# Altium schematic symbol library Maxim Amplifiers and Comparators.SchLib: 420 symbols (part 5 of 16)
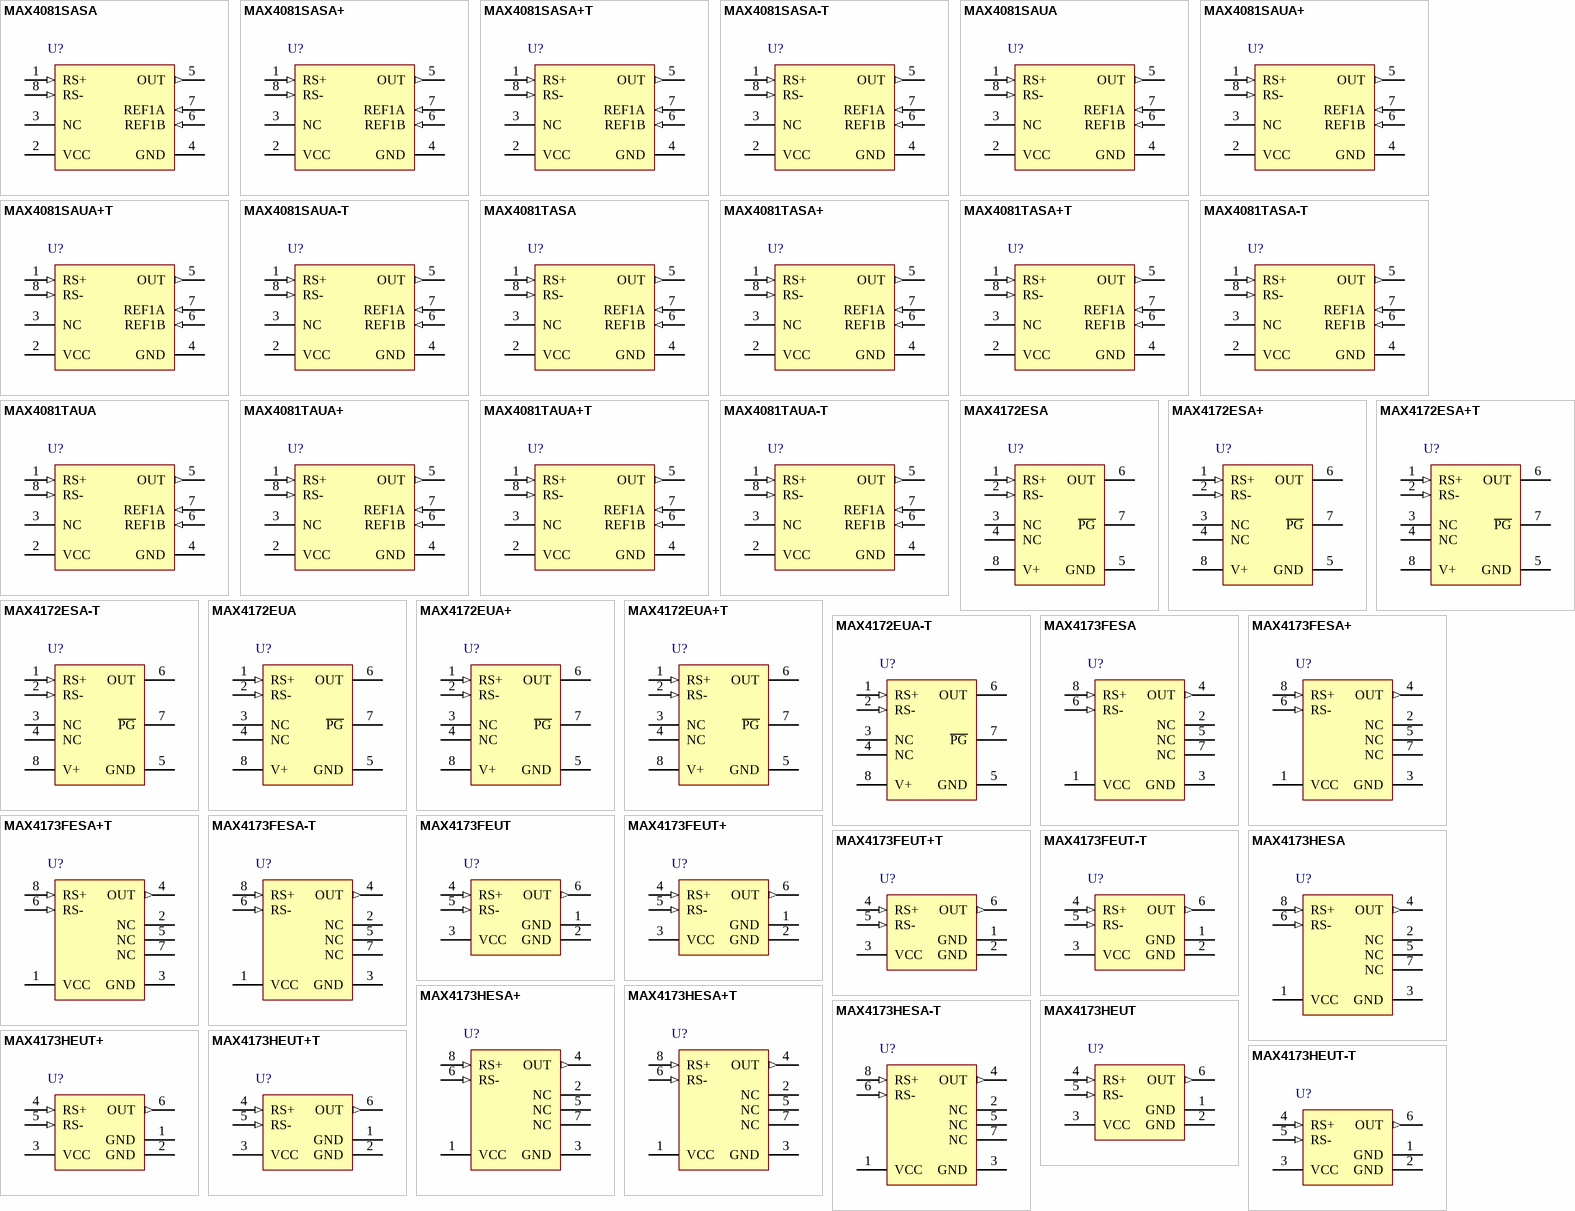
[diagram p14: symbols MAX4081SASA to MAX4173HEUT-T]

## MAX4172EUA
designator U?
Precision, High-Side, Current-Sense Amplifier (Iout) 10 uA / mV Gain, -40 to 85 degC, 8-Pin SOP (U8-1); PartNumber: MAX4172EUA; Bi-Dir. Curr. Sense: No; DatasheetVersion: Rev. 2; PackageVersion: Rev. L, 08/2009; PackageReference: U8-1; PackageDescription: 8-Pin Micro-MAX, Thin Shrink Small-Outline (U8-1), Body 3 x 3 mm, Pitch 0.65mm; Supplier 1: Digi-Key; Supplier Part Number 1: MAX4172EUA-ND; Supplier 2: Mouser; Supplier Part Number 2: 700-MAX4172EUA-NR; Gain: 10 uA/mV; Mounting Technology: Surface Mount; Code_JEDEC: MO-187; ComponentLink1Description: Manufacturer URL; ComponentLink1URL: http://www.maximintegrated.com/; ComponentLink2Description: Datasheet; ComponentLink2URL: http://datasheets.maximintegrated.com/en/ds/MAX4172.pdf; ComponentLink3Description: Package Specification; ComponentLink3URL: http://pdfserv.maximintegrated.com/package_dwgs/21-0036.PDF
footprint MAXM-U8-1_N (SOP, 8-Leads, Body 3x3mm, Pitch 0.65mm, IPC Medium Density)
footprint MAXM-U8-1_L (SOP, 8-Leads, Body 3x3mm, Pitch 0.65mm, IPC High Density)
footprint MAXM-U8-1_M (SOP, 8-Leads, Body 3x3mm, Pitch 0.65mm, IPC Low Density)
pins: 1 RS+ (in) "Power connection to the external sense resistor. The “+” indicates the direction of current flow.", 2 RS- (in) "Load-side connection for the external sense resistor. The “-” indicates the direction of current flow.", 3 NC "No Connect. No internal connection. Leave open or connect to GND", 4 NC "No Connect. No internal connection. Leave open or connect to GND", 5 GND (power) "Ground", 6 OUT (hiz) "Current Output. OUT is proportional to the magnitude of the sense voltage (VRS+ - VRS-). A 1k ohm resistor from OUT to ground will result in a voltage equal to 10V/V of sense voltage.", 7 ~{PG} (oc) "Power Good Open-Collector Logic Output. A low level indicates that V+ is sufficient to power the MAX4172, and adequate time has passed for power-on transients to settle out.", 8 V+ (power) "Supply Voltage Input for the MAX4172"

## MAX4172EUA+
designator U?
Precision, High-Side, Current-Sense Amplifier (Iout) 10 uA / mV Gain, -40 to 85 degC, 8-Pin SOP (U8+1), Pb-Free; PartNumber: MAX4172EUA+; Bi-Dir. Curr. Sense: No; DatasheetVersion: Rev. 2; PackageVersion: Rev. L, 08/2009; PackageReference: U8+1; PackageDescription: 8-Pin Micro-MAX, Thin Shrink Small-Outline (U8+1), Body 3 x 3 mm, Pitch 0.65 mm; Supplier 1: Digi-Key; Supplier Part Number 1: MAX4172EUA+-ND; Supplier 2: Mouser; Supplier Part Number 2: 700-MAX4172EUA; Gain: 10 uA/mV; Mounting Technology: Surface Mount; Code_JEDEC: MO-187; ComponentLink1Description: Manufacturer URL; ComponentLink1URL: http://www.maximintegrated.com/; ComponentLink2Description: Datasheet; ComponentLink2URL: http://datasheets.maximintegrated.com/en/ds/MAX4172.pdf; ComponentLink3Description: Package Specification; ComponentLink3URL: http://pdfserv.maximintegrated.com/package_dwgs/21-0036.PDF
footprint MAXM-U8+1_N (SOP, 8-Leads, Body 3x3mm, Pitch 0.65mm, IPC Medium Density)
footprint MAXM-U8+1_L (SOP, 8-Leads, Body 3x3mm, Pitch 0.65mm, IPC High Density)
footprint MAXM-U8+1_M (SOP, 8-Leads, Body 3x3mm, Pitch 0.65mm, IPC Low Density)
pins: 1 RS+ (in) "Power connection to the external sense resistor. The “+” indicates the direction of current flow.", 2 RS- (in) "Load-side connection for the external sense resistor. The “-” indicates the direction of current flow.", 3 NC "No Connect. No internal connection. Leave open or connect to GND", 4 NC "No Connect. No internal connection. Leave open or connect to GND", 5 GND (power) "Ground", 6 OUT (hiz) "Current Output. OUT is proportional to the magnitude of the sense voltage (VRS+ - VRS-). A 1k ohm resistor from OUT to ground will result in a voltage equal to 10V/V of sense voltage.", 7 ~{PG} (oc) "Power Good Open-Collector Logic Output. A low level indicates that V+ is sufficient to power the MAX4172, and adequate time has passed for power-on transients to settle out.", 8 V+ (power) "Supply Voltage Input for the MAX4172"

## MAX4172EUA+T
designator U?
Precision, High-Side, Current-Sense Amplifier (Iout) 10 uA / mV Gain, -40 to 85 degC, 8-Pin SOP (U8+1), Pb-Free, Tape and Reel; PartNumber: MAX4172EUA+T; Bi-Dir. Curr. Sense: No; DatasheetVersion: Rev. 2; PackageVersion: Rev. L, 08/2009; PackageReference: U8+1; PackageDescription: 8-Pin Micro-MAX, Thin Shrink Small-Outline (U8+1), Body 3 x 3 mm, Pitch 0.65 mm; Supplier 1: Digi-Key; Supplier Part Number 1: MAX4172EUA+T-ND; Supplier 2: Mouser; Supplier Part Number 2: 700-MAX4172EUA+T; Gain: 10 uA/mV; Mounting Technology: Surface Mount; Code_JEDEC: MO-187; ComponentLink1Description: Manufacturer URL; ComponentLink1URL: http://www.maximintegrated.com/; ComponentLink2Description: Datasheet; ComponentLink2URL: http://datasheets.maximintegrated.com/en/ds/MAX4172.pdf; ComponentLink3Description: Package Specification; ComponentLink3URL: http://pdfserv.maximintegrated.com/package_dwgs/21-0036.PDF
footprint MAXM-U8+1_N (SOP, 8-Leads, Body 3x3mm, Pitch 0.65mm, IPC Medium Density)
footprint MAXM-U8+1_L (SOP, 8-Leads, Body 3x3mm, Pitch 0.65mm, IPC High Density)
footprint MAXM-U8+1_M (SOP, 8-Leads, Body 3x3mm, Pitch 0.65mm, IPC Low Density)
pins: 1 RS+ (in) "Power connection to the external sense resistor. The “+” indicates the direction of current flow.", 2 RS- (in) "Load-side connection for the external sense resistor. The “-” indicates the direction of current flow.", 3 NC "No Connect. No internal connection. Leave open or connect to GND", 4 NC "No Connect. No internal connection. Leave open or connect to GND", 5 GND (power) "Ground", 6 OUT (hiz) "Current Output. OUT is proportional to the magnitude of the sense voltage (VRS+ - VRS-). A 1k ohm resistor from OUT to ground will result in a voltage equal to 10V/V of sense voltage.", 7 ~{PG} (oc) "Power Good Open-Collector Logic Output. A low level indicates that V+ is sufficient to power the MAX4172, and adequate time has passed for power-on transients to settle out.", 8 V+ (power) "Supply Voltage Input for the MAX4172"

## MAX4172EUA-T
designator U?
Precision, High-Side, Current-Sense Amplifier (Iout) 10 uA / mV Gain, -40 to 85 degC, 8-Pin SOP (U8-1), Tape and Reel; PartNumber: MAX4172EUA-T; Bi-Dir. Curr. Sense: No; DatasheetVersion: Rev. 2; PackageVersion: Rev. L, 08/2009; PackageReference: U8-1; PackageDescription: 8-Pin Micro-MAX, Thin Shrink Small-Outline (U8-1), Body 3 x 3 mm, Pitch 0.65mm; Supplier 1: Digi-Key; Supplier Part Number 1: MAX4172EUA-T-ND; Supplier 2: Mouser; Supplier Part Number 2: 700-MAX4172EUA-T-; Gain: 10 uA/mV; Mounting Technology: Surface Mount; Code_JEDEC: MO-187; ComponentLink1Description: Manufacturer URL; ComponentLink1URL: http://www.maximintegrated.com/; ComponentLink2Description: Datasheet; ComponentLink2URL: http://datasheets.maximintegrated.com/en/ds/MAX4172.pdf; ComponentLink3Description: Package Specification; ComponentLink3URL: http://pdfserv.maximintegrated.com/package_dwgs/21-0036.PDF
footprint MAXM-U8-1_N (SOP, 8-Leads, Body 3x3mm, Pitch 0.65mm, IPC Medium Density)
footprint MAXM-U8-1_L (SOP, 8-Leads, Body 3x3mm, Pitch 0.65mm, IPC High Density)
footprint MAXM-U8-1_M (SOP, 8-Leads, Body 3x3mm, Pitch 0.65mm, IPC Low Density)
pins: 1 RS+ (in) "Power connection to the external sense resistor. The “+” indicates the direction of current flow.", 2 RS- (in) "Load-side connection for the external sense resistor. The “-” indicates the direction of current flow.", 3 NC "No Connect. No internal connection. Leave open or connect to GND", 4 NC "No Connect. No internal connection. Leave open or connect to GND", 5 GND (power) "Ground", 6 OUT (hiz) "Current Output. OUT is proportional to the magnitude of the sense voltage (VRS+ - VRS-). A 1k ohm resistor from OUT to ground will result in a voltage equal to 10V/V of sense voltage.", 7 ~{PG} (oc) "Power Good Open-Collector Logic Output. A low level indicates that V+ is sufficient to power the MAX4172, and adequate time has passed for power-on transients to settle out.", 8 V+ (power) "Supply Voltage Input for the MAX4172"

## MAX4173FESA
designator U?
Voltage-Output, High-Side Current-Sense Amplifier, 50 V / V Gain, -40 to 85 degC, 8-Pin SOIC (S8-2); PartNumber: MAX4173FESA; Bi-Dir. Curr. Sense: No; Gain: 20 V/V, 50 V/V ,100 V/V; DatasheetVersion: Rev. 5; PackageVersion: Rev. D, 10/2012; PackageReference: S8-2; PackageDescription: 8-Pin Small-Outline IC, Narrow (0.15in) (S8-2), Body 4.90 x 3.90 mm, Pitch 1.27 mm; Supplier 1: Digi-Key; Supplier Part Number 1: MAX4173FESA-ND; Supplier 2: Mouser; Supplier Part Number 2: 700-MAX4173FESA-NR; Mounting Technology: Surface Mount; Code_JEDEC: MS012; ComponentLink1Description: Manufacturer URL; ComponentLink1URL: http://www.maximintegrated.com/; ComponentLink2Description: Datasheet; ComponentLink2URL: http://datasheets.maximintegrated.com/en/ds/MAX4173-MAX4173T.pdf; ComponentLink3Description: Package Specification; ComponentLink3URL: http://pdfserv.maximintegrated.com/package_dwgs/21-0041.PDF
footprint MAXM-S8-2_N (SOIC, 8-Leads, Body 4.90x3.90mm, Pitch 1.27mm, IPC Medium Density)
footprint MAXM-S8-2_L (SOIC, 8-Leads, Body 4.90x3.90mm, Pitch 1.27mm, IPC High Density)
footprint MAXM-S8-2_M (SOIC, 8-Leads, Body 4.90x3.90mm, Pitch 1.27mm, IPC Low Density)
pins: 1 VCC (power) "Supply Voltage. Use at least a 0.1uF capacitor to decouple VCC from fast transients", 2 NC "No Connection. Not internally connected.", 3 GND (power) "Ground", 4 OUT (out) "Output Voltage. VOUT is proportional to the magnitude of VSENSE (VRS+ - VRS-).", 5 NC "No Connection. Not internally connected.", 6 RS- (in) "Load connection to the external sense resistor.", 7 NC "No Connection. Not internally connected.", 8 RS+ (in) "Power connection to the external-sense resistor."

## MAX4173FESA+
designator U?
Voltage-Output, High-Side Current-Sense Amplifier, 50 V / V Gain, -40 to 85 degC, 8-Pin SOIC (S8+2), Pb-Free; PartNumber: MAX4173FESA+; Bi-Dir. Curr. Sense: No; Gain: 20 V/V, 50 V/V ,100 V/V; DatasheetVersion: Rev. 5; PackageVersion: Rev. D, 10/2012; PackageReference: S8+2; PackageDescription: 8-Pin Small-Outline IC, Narrow (0.15in) (S8+2), Body 4.90 x 3.90 mm, Pitch 1.27 mm; Supplier 1: Digi-Key; Supplier Part Number 1: MAX4173FESA+-ND; Supplier 2: Newark; Supplier Part Number 2: 53K6811; Supplier 3: Mouser; Supplier Part Number 3: 700-MAX4173FESA; Mounting Technology: Surface Mount; Code_JEDEC: MS012; ComponentLink1Description: Manufacturer URL; ComponentLink1URL: http://www.maximintegrated.com/; ComponentLink2Description: Datasheet; ComponentLink2URL: http://datasheets.maximintegrated.com/en/ds/MAX4173-MAX4173T.pdf; ComponentLink3Description: Package Specification; ComponentLink3URL: http://pdfserv.maximintegrated.com/package_dwgs/21-0041.PDF
footprint MAXM-S8+2_N (SOIC, 8-Leads, Body 4.90x3.90mm, Pitch 1.27mm, IPC Medium Density)
footprint MAXM-S8+2_L (SOIC, 8-Leads, Body 4.90x3.90mm, Pitch 1.27mm, IPC High Density)
footprint MAXM-S8+2_M (SOIC, 8-Leads, Body 4.90x3.90mm, Pitch 1.27mm, IPC Low Density)
pins: 1 VCC (power) "Supply Voltage. Use at least a 0.1uF capacitor to decouple VCC from fast transients", 2 NC "No Connection. Not internally connected.", 3 GND (power) "Ground", 4 OUT (out) "Output Voltage. VOUT is proportional to the magnitude of VSENSE (VRS+ - VRS-).", 5 NC "No Connection. Not internally connected.", 6 RS- (in) "Load connection to the external sense resistor.", 7 NC "No Connection. Not internally connected.", 8 RS+ (in) "Power connection to the external-sense resistor."

## MAX4173FESA+T
designator U?
Voltage-Output, High-Side Current-Sense Amplifier, 50 V / V Gain, -40 to 85 degC, 8-Pin SOIC (S8+2), Pb-Free, Tape and Reel; PartNumber: MAX4173FESA+T; Bi-Dir. Curr. Sense: No; Gain: 20 V/V, 50 V/V ,100 V/V; DatasheetVersion: Rev. 5; PackageVersion: Rev. D, 10/2012; PackageReference: S8+2; PackageDescription: 8-Pin Small-Outline IC, Narrow (0.15in) (S8+2), Body 4.90 x 3.90 mm, Pitch 1.27 mm; Supplier 1: Digi-Key; Supplier Part Number 1: MAX4173FESA+T-ND; Supplier 2: Mouser; Supplier Part Number 2: 700-MAX4173FESA+T; Mounting Technology: Surface Mount; Code_JEDEC: MS012; ComponentLink1Description: Manufacturer URL; ComponentLink1URL: http://www.maximintegrated.com/; ComponentLink2Description: Datasheet; ComponentLink2URL: http://datasheets.maximintegrated.com/en/ds/MAX4173-MAX4173T.pdf; ComponentLink3Description: Package Specification; ComponentLink3URL: http://pdfserv.maximintegrated.com/package_dwgs/21-0041.PDF
footprint MAXM-S8+2_N (SOIC, 8-Leads, Body 4.90x3.90mm, Pitch 1.27mm, IPC Medium Density)
footprint MAXM-S8+2_L (SOIC, 8-Leads, Body 4.90x3.90mm, Pitch 1.27mm, IPC High Density)
footprint MAXM-S8+2_M (SOIC, 8-Leads, Body 4.90x3.90mm, Pitch 1.27mm, IPC Low Density)
pins: 1 VCC (power) "Supply Voltage. Use at least a 0.1uF capacitor to decouple VCC from fast transients", 2 NC "No Connection. Not internally connected.", 3 GND (power) "Ground", 4 OUT (out) "Output Voltage. VOUT is proportional to the magnitude of VSENSE (VRS+ - VRS-).", 5 NC "No Connection. Not internally connected.", 6 RS- (in) "Load connection to the external sense resistor.", 7 NC "No Connection. Not internally connected.", 8 RS+ (in) "Power connection to the external-sense resistor."

## MAX4173FESA-T
designator U?
Voltage-Output, High-Side Current-Sense Amplifier, 50 V / V Gain, -40 to 85 degC, 8-Pin SOIC (S8-2), Tape and Reel; PartNumber: MAX4173FESA-T; Bi-Dir. Curr. Sense: No; Gain: 20 V/V, 50 V/V ,100 V/V; DatasheetVersion: Rev. 5; PackageVersion: Rev. D, 10/2012; PackageReference: S8-2; PackageDescription: 8-Pin Small-Outline IC, Narrow (0.15in) (S8-2), Body 4.90 x 3.90 mm, Pitch 1.27 mm; Supplier 1: Digi-Key; Supplier Part Number 1: MAX4173FESA-T-ND; Supplier 2: Mouser; Supplier Part Number 2: 700-MAX4173FESA-T-; Mounting Technology: Surface Mount; Code_JEDEC: MS012; ComponentLink1Description: Manufacturer URL; ComponentLink1URL: http://www.maximintegrated.com/; ComponentLink2Description: Datasheet; ComponentLink2URL: http://datasheets.maximintegrated.com/en/ds/MAX4173-MAX4173T.pdf; ComponentLink3Description: Package Specification; ComponentLink3URL: http://pdfserv.maximintegrated.com/package_dwgs/21-0041.PDF
footprint MAXM-S8-2_N (SOIC, 8-Leads, Body 4.90x3.90mm, Pitch 1.27mm, IPC Medium Density)
footprint MAXM-S8-2_L (SOIC, 8-Leads, Body 4.90x3.90mm, Pitch 1.27mm, IPC High Density)
footprint MAXM-S8-2_M (SOIC, 8-Leads, Body 4.90x3.90mm, Pitch 1.27mm, IPC Low Density)
pins: 1 VCC (power) "Supply Voltage. Use at least a 0.1uF capacitor to decouple VCC from fast transients", 2 NC "No Connection. Not internally connected.", 3 GND (power) "Ground", 4 OUT (out) "Output Voltage. VOUT is proportional to the magnitude of VSENSE (VRS+ - VRS-).", 5 NC "No Connection. Not internally connected.", 6 RS- (in) "Load connection to the external sense resistor.", 7 NC "No Connection. Not internally connected.", 8 RS+ (in) "Power connection to the external-sense resistor."

## MAX4173FEUT
designator U?
Voltage-Output, High-Side Current-Sense Amplifier, 50 V / V Gain, -40 to 85 degC, 6-Pin SOT23 (U6-1); PartNumber: MAX4173FEUT; Bi-Dir. Curr. Sense: No; Gain: 20 V/V, 50 V/V ,100 V/V; DatasheetVersion: Rev. 5; PackageVersion: Rev. N, 08/2012; PackageReference: U6-1; PackageDescription: 6-Pin Small-Outline Transistor Package (U6-1), Body 2.9 x 1.625 mm, Pitch 0.95 mm; Supplier 1: Mouser; Supplier Part Number 1: N/A; Mounting Technology: Surface Mount; Code_JEDEC: MO178; ComponentLink1Description: Manufacturer URL; ComponentLink1URL: http://www.maximintegrated.com/; ComponentLink2Description: Datasheet; ComponentLink2URL: http://datasheets.maximintegrated.com/en/ds/MAX4173-MAX4173T.pdf; ComponentLink3Description: Package Specification; ComponentLink3URL: http://pdfserv.maximintegrated.com/package_dwgs/21-0058.PDF
footprint MAXM-U6-1_N (SOT23, 6-Leads, Body 2.9x1.625mm, Pitch 0.95mm, IPC Medium Density)
footprint MAXM-U6-1_L (SOT23, 6-Leads, Body 2.9x1.625mm, Pitch 0.95mm, IPC High Density)
footprint MAXM-U6-1_M (SOT23, 6-Leads, Body 2.9x1.625mm, Pitch 0.95mm, IPC Low Density)
pins: 1 GND (power) "Ground", 2 GND (power) "Ground", 3 VCC (power) "Supply Voltage Input. Bypass to GND with a 0.1uF capacitor", 4 RS+ (in) "Power-Side Connection to the External Sense Resistor", 5 RS- (in) "Load-Side Connection to the External Sense Resistor", 6 OUT (out) "Voltage Output. VOUT is proportional to VSENSE. Output impedance is approximately 12k ohm."

## MAX4173FEUT+
designator U?
Voltage-Output, High-Side Current-Sense Amplifier, 50 V / V Gain, -40 to 85 degC, 6-Pin SOT23 (U6+1), Pb-Free; PartNumber: MAX4173FEUT+; Bi-Dir. Curr. Sense: No; Gain: 20 V/V, 50 V/V ,100 V/V; DatasheetVersion: Rev. 5; PackageVersion: Rev. N, 08/2012; PackageReference: U6+1; PackageDescription: 6-Pin Small-Outline Transistor Package (U6+1), Body 2.9 x 1.625 mm, Pitch 0.95 mm; Supplier 1: Mouser; Supplier Part Number 1: N/A; Mounting Technology: Surface Mount; Code_JEDEC: MO178; ComponentLink1Description: Manufacturer URL; ComponentLink1URL: http://www.maximintegrated.com/; ComponentLink2Description: Datasheet; ComponentLink2URL: http://datasheets.maximintegrated.com/en/ds/MAX4173-MAX4173T.pdf; ComponentLink3Description: Package Specification; ComponentLink3URL: http://pdfserv.maximintegrated.com/package_dwgs/21-0058.PDF
footprint MAXM-U6+1_N (SOT23, 6-Leads, Body 2.9x1.625mm, Pitch 0.95mm, IPC Medium Density)
footprint MAXM-U6+1_L (SOT23, 6-Leads, Body 2.9x1.625mm, Pitch 0.95mm, IPC High Density)
footprint MAXM-U6+1_M (SOT23, 6-Leads, Body 2.9x1.625mm, Pitch 0.95mm, IPC Low Density)
pins: 1 GND (power) "Ground", 2 GND (power) "Ground", 3 VCC (power) "Supply Voltage Input. Bypass to GND with a 0.1uF capacitor", 4 RS+ (in) "Power-Side Connection to the External Sense Resistor", 5 RS- (in) "Load-Side Connection to the External Sense Resistor", 6 OUT (out) "Voltage Output. VOUT is proportional to VSENSE. Output impedance is approximately 12k ohm."

## MAX4173FEUT+T
designator U?
Voltage-Output, High-Side Current-Sense Amplifier, 50 V / V Gain, -40 to 85 degC, 6-Pin SOT23 (U6+1), Pb-Free, Tape and Reel; PartNumber: MAX4173FEUT+T; Bi-Dir. Curr. Sense: No; Gain: 20 V/V, 50 V/V ,100 V/V; DatasheetVersion: Rev. 5; PackageVersion: Rev. N, 08/2012; PackageReference: U6+1; PackageDescription: 6-Pin Small-Outline Transistor Package (U6+1), Body 2.9 x 1.625 mm, Pitch 0.95 mm; Supplier 1: Digi-Key; Supplier Part Number 1: MAX4173FEUT+TTR-ND; Supplier 2: Digi-Key; Supplier Part Number 2: MAX4173FEUT+TCT-ND; Supplier 3: Digi-Key; Supplier Part Number 3: MAX4173FEUT+TDKR-ND; Supplier 4: Mouser; Supplier Part Number 4: 700-MAX4173FEUT+T; Mounting Technology: Surface Mount; Code_JEDEC: MO178; ComponentLink1Description: Manufacturer URL; ComponentLink1URL: http://www.maximintegrated.com/; ComponentLink2Description: Datasheet; ComponentLink2URL: http://datasheets.maximintegrated.com/en/ds/MAX4173-MAX4173T.pdf; ComponentLink3Description: Package Specification; ComponentLink3URL: http://pdfserv.maximintegrated.com/package_dwgs/21-0058.PDF
footprint MAXM-U6+1_N (SOT23, 6-Leads, Body 2.9x1.625mm, Pitch 0.95mm, IPC Medium Density)
footprint MAXM-U6+1_L (SOT23, 6-Leads, Body 2.9x1.625mm, Pitch 0.95mm, IPC High Density)
footprint MAXM-U6+1_M (SOT23, 6-Leads, Body 2.9x1.625mm, Pitch 0.95mm, IPC Low Density)
pins: 1 GND (power) "Ground", 2 GND (power) "Ground", 3 VCC (power) "Supply Voltage Input. Bypass to GND with a 0.1uF capacitor", 4 RS+ (in) "Power-Side Connection to the External Sense Resistor", 5 RS- (in) "Load-Side Connection to the External Sense Resistor", 6 OUT (out) "Voltage Output. VOUT is proportional to VSENSE. Output impedance is approximately 12k ohm."

## MAX4173FEUT-T
designator U?
Voltage-Output, High-Side Current-Sense Amplifier, 50 V / V Gain, -40 to 85 degC, 6-Pin SOT23 (U6-1), Tape and Reel; PartNumber: MAX4173FEUT-T; Bi-Dir. Curr. Sense: No; Gain: 20 V/V, 50 V/V ,100 V/V; DatasheetVersion: Rev. 5; PackageVersion: Rev. N, 08/2012; PackageReference: U6-1; PackageDescription: 6-Pin Small-Outline Transistor Package (U6-1), Body 2.9 x 1.625 mm, Pitch 0.95 mm; Supplier 1: Digi-Key; Supplier Part Number 1: MAX4173FEUT-T-ND; Supplier 2: Mouser; Supplier Part Number 2: 700-MAX4173FEUT-T-; Mounting Technology: Surface Mount; Code_JEDEC: MO178; ComponentLink1Description: Manufacturer URL; ComponentLink1URL: http://www.maximintegrated.com/; ComponentLink2Description: Datasheet; ComponentLink2URL: http://datasheets.maximintegrated.com/en/ds/MAX4173-MAX4173T.pdf; ComponentLink3Description: Package Specification; ComponentLink3URL: http://pdfserv.maximintegrated.com/package_dwgs/21-0058.PDF
footprint MAXM-U6-1_N (SOT23, 6-Leads, Body 2.9x1.625mm, Pitch 0.95mm, IPC Medium Density)
footprint MAXM-U6-1_L (SOT23, 6-Leads, Body 2.9x1.625mm, Pitch 0.95mm, IPC High Density)
footprint MAXM-U6-1_M (SOT23, 6-Leads, Body 2.9x1.625mm, Pitch 0.95mm, IPC Low Density)
pins: 1 GND (power) "Ground", 2 GND (power) "Ground", 3 VCC (power) "Supply Voltage Input. Bypass to GND with a 0.1uF capacitor", 4 RS+ (in) "Power-Side Connection to the External Sense Resistor", 5 RS- (in) "Load-Side Connection to the External Sense Resistor", 6 OUT (out) "Voltage Output. VOUT is proportional to VSENSE. Output impedance is approximately 12k ohm."

## MAX4173HESA
designator U?
Voltage-Output, High-Side Current-Sense Amplifier, 100 V / V Gain, -40 to 85 degC, 8-Pin SOIC (S8-2); PartNumber: MAX4173HESA; Bi-Dir. Curr. Sense: No; Gain: 20 V/V, 50 V/V ,100 V/V; DatasheetVersion: Rev. 5; PackageVersion: Rev. D, 10/2012; PackageReference: S8-2; PackageDescription: 8-Pin Small-Outline IC, Narrow (0.15in) (S8-2), Body 4.90 x 3.90 mm, Pitch 1.27 mm; Supplier 1: Digi-Key; Supplier Part Number 1: MAX4173HESA-ND; Supplier 2: Mouser; Supplier Part Number 2: 700-MAX4173HESA-NR; Mounting Technology: Surface Mount; Code_JEDEC: MS012; ComponentLink1Description: Manufacturer URL; ComponentLink1URL: http://www.maximintegrated.com/; ComponentLink2Description: Datasheet; ComponentLink2URL: http://datasheets.maximintegrated.com/en/ds/MAX4173-MAX4173T.pdf; ComponentLink3Description: Package Specification; ComponentLink3URL: http://pdfserv.maximintegrated.com/package_dwgs/21-0041.PDF
footprint MAXM-S8-2_N (SOIC, 8-Leads, Body 4.90x3.90mm, Pitch 1.27mm, IPC Medium Density)
footprint MAXM-S8-2_L (SOIC, 8-Leads, Body 4.90x3.90mm, Pitch 1.27mm, IPC High Density)
footprint MAXM-S8-2_M (SOIC, 8-Leads, Body 4.90x3.90mm, Pitch 1.27mm, IPC Low Density)
pins: 1 VCC (power) "Supply Voltage. Use at least a 0.1uF capacitor to decouple VCC from fast transients", 2 NC "No Connection. Not internally connected.", 3 GND (power) "Ground", 4 OUT (out) "Output Voltage. VOUT is proportional to the magnitude of VSENSE (VRS+ - VRS-).", 5 NC "No Connection. Not internally connected.", 6 RS- (in) "Load connection to the external sense resistor.", 7 NC "No Connection. Not internally connected.", 8 RS+ (in) "Power connection to the external-sense resistor."

## MAX4173HESA+
designator U?
Voltage-Output, High-Side Current-Sense Amplifier, 100 V / V Gain, -40 to 85 degC, 8-Pin SOIC (S8+2), Pb-Free; PartNumber: MAX4173HESA+; Bi-Dir. Curr. Sense: No; Gain: 20 V/V, 50 V/V ,100 V/V; DatasheetVersion: Rev. 5; PackageVersion: Rev. D, 10/2012; PackageReference: S8+2; PackageDescription: 8-Pin Small-Outline IC, Narrow (0.15in) (S8+2), Body 4.90 x 3.90 mm, Pitch 1.27 mm; Supplier 1: Digi-Key; Supplier Part Number 1: MAX4173HESA+-ND; Supplier 2: Mouser; Supplier Part Number 2: 700-MAX4173HESA; Mounting Technology: Surface Mount; Code_JEDEC: MS012; ComponentLink1Description: Manufacturer URL; ComponentLink1URL: http://www.maximintegrated.com/; ComponentLink2Description: Datasheet; ComponentLink2URL: http://datasheets.maximintegrated.com/en/ds/MAX4173-MAX4173T.pdf; ComponentLink3Description: Package Specification; ComponentLink3URL: http://pdfserv.maximintegrated.com/package_dwgs/21-0041.PDF
footprint MAXM-S8+2_N (SOIC, 8-Leads, Body 4.90x3.90mm, Pitch 1.27mm, IPC Medium Density)
footprint MAXM-S8+2_L (SOIC, 8-Leads, Body 4.90x3.90mm, Pitch 1.27mm, IPC High Density)
footprint MAXM-S8+2_M (SOIC, 8-Leads, Body 4.90x3.90mm, Pitch 1.27mm, IPC Low Density)
pins: 1 VCC (power) "Supply Voltage. Use at least a 0.1uF capacitor to decouple VCC from fast transients", 2 NC "No Connection. Not internally connected.", 3 GND (power) "Ground", 4 OUT (out) "Output Voltage. VOUT is proportional to the magnitude of VSENSE (VRS+ - VRS-).", 5 NC "No Connection. Not internally connected.", 6 RS- (in) "Load connection to the external sense resistor.", 7 NC "No Connection. Not internally connected.", 8 RS+ (in) "Power connection to the external-sense resistor."

## MAX4173HESA+T
designator U?
Voltage-Output, High-Side Current-Sense Amplifier, 100 V / V Gain, -40 to 85 degC, 8-Pin SOIC (S8+2), Pb-Free, Tape and Reel; PartNumber: MAX4173HESA+T; Bi-Dir. Curr. Sense: No; Gain: 20 V/V, 50 V/V ,100 V/V; DatasheetVersion: Rev. 5; PackageVersion: Rev. D, 10/2012; PackageReference: S8+2; PackageDescription: 8-Pin Small-Outline IC, Narrow (0.15in) (S8+2), Body 4.90 x 3.90 mm, Pitch 1.27 mm; Supplier 1: Digi-Key; Supplier Part Number 1: MAX4173HESA+T-ND; Supplier 2: Mouser; Supplier Part Number 2: 700-MAX4173HESA+T; Mounting Technology: Surface Mount; Code_JEDEC: MS012; ComponentLink1Description: Manufacturer URL; ComponentLink1URL: http://www.maximintegrated.com/; ComponentLink2Description: Datasheet; ComponentLink2URL: http://datasheets.maximintegrated.com/en/ds/MAX4173-MAX4173T.pdf; ComponentLink3Description: Package Specification; ComponentLink3URL: http://pdfserv.maximintegrated.com/package_dwgs/21-0041.PDF
footprint MAXM-S8+2_N (SOIC, 8-Leads, Body 4.90x3.90mm, Pitch 1.27mm, IPC Medium Density)
footprint MAXM-S8+2_L (SOIC, 8-Leads, Body 4.90x3.90mm, Pitch 1.27mm, IPC High Density)
footprint MAXM-S8+2_M (SOIC, 8-Leads, Body 4.90x3.90mm, Pitch 1.27mm, IPC Low Density)
pins: 1 VCC (power) "Supply Voltage. Use at least a 0.1uF capacitor to decouple VCC from fast transients", 2 NC "No Connection. Not internally connected.", 3 GND (power) "Ground", 4 OUT (out) "Output Voltage. VOUT is proportional to the magnitude of VSENSE (VRS+ - VRS-).", 5 NC "No Connection. Not internally connected.", 6 RS- (in) "Load connection to the external sense resistor.", 7 NC "No Connection. Not internally connected.", 8 RS+ (in) "Power connection to the external-sense resistor."

## MAX4173HESA-T
designator U?
Voltage-Output, High-Side Current-Sense Amplifier, 100 V / V Gain, -40 to 85 degC, 8-Pin SOIC (S8-2), Tape and Reel; PartNumber: MAX4173HESA-T; Bi-Dir. Curr. Sense: No; Gain: 20 V/V, 50 V/V ,100 V/V; DatasheetVersion: Rev. 5; PackageVersion: Rev. D, 10/2012; PackageReference: S8-2; PackageDescription: 8-Pin Small-Outline IC, Narrow (0.15in) (S8-2), Body 4.90 x 3.90 mm, Pitch 1.27 mm; Supplier 1: Digi-Key; Supplier Part Number 1: MAX4173HESA-T-ND; Supplier 2: Mouser; Supplier Part Number 2: 700-MAX4173HESA-T-; Mounting Technology: Surface Mount; Code_JEDEC: MS012; ComponentLink1Description: Manufacturer URL; ComponentLink1URL: http://www.maximintegrated.com/; ComponentLink2Description: Datasheet; ComponentLink2URL: http://datasheets.maximintegrated.com/en/ds/MAX4173-MAX4173T.pdf; ComponentLink3Description: Package Specification; ComponentLink3URL: http://pdfserv.maximintegrated.com/package_dwgs/21-0041.PDF
footprint MAXM-S8-2_N (SOIC, 8-Leads, Body 4.90x3.90mm, Pitch 1.27mm, IPC Medium Density)
footprint MAXM-S8-2_L (SOIC, 8-Leads, Body 4.90x3.90mm, Pitch 1.27mm, IPC High Density)
footprint MAXM-S8-2_M (SOIC, 8-Leads, Body 4.90x3.90mm, Pitch 1.27mm, IPC Low Density)
pins: 1 VCC (power) "Supply Voltage. Use at least a 0.1uF capacitor to decouple VCC from fast transients", 2 NC "No Connection. Not internally connected.", 3 GND (power) "Ground", 4 OUT (out) "Output Voltage. VOUT is proportional to the magnitude of VSENSE (VRS+ - VRS-).", 5 NC "No Connection. Not internally connected.", 6 RS- (in) "Load connection to the external sense resistor.", 7 NC "No Connection. Not internally connected.", 8 RS+ (in) "Power connection to the external-sense resistor."

## MAX4173HEUT
designator U?
Voltage-Output, High-Side Current-Sense Amplifier, 100 V / V Gain, -40 to 85 degC, 6-Pin SOT23 (U6-1); PartNumber: MAX4173HEUT; Bi-Dir. Curr. Sense: No; Gain: 20 V/V, 50 V/V ,100 V/V; DatasheetVersion: Rev. 5; PackageVersion: Rev. N, 08/2012; PackageReference: U6-1; PackageDescription: 6-Pin Small-Outline Transistor Package (U6-1), Body 2.9 x 1.625 mm, Pitch 0.95 mm; Supplier 1: Mouser; Supplier Part Number 1: N/A; Mounting Technology: Surface Mount; Code_JEDEC: MO178; ComponentLink1Description: Manufacturer URL; ComponentLink1URL: http://www.maximintegrated.com/; ComponentLink2Description: Datasheet; ComponentLink2URL: http://datasheets.maximintegrated.com/en/ds/MAX4173-MAX4173T.pdf; ComponentLink3Description: Package Specification; ComponentLink3URL: http://pdfserv.maximintegrated.com/package_dwgs/21-0058.PDF
footprint MAXM-U6-1_N (SOT23, 6-Leads, Body 2.9x1.625mm, Pitch 0.95mm, IPC Medium Density)
footprint MAXM-U6-1_L (SOT23, 6-Leads, Body 2.9x1.625mm, Pitch 0.95mm, IPC High Density)
footprint MAXM-U6-1_M (SOT23, 6-Leads, Body 2.9x1.625mm, Pitch 0.95mm, IPC Low Density)
pins: 1 GND (power) "Ground", 2 GND (power) "Ground", 3 VCC (power) "Supply Voltage Input. Bypass to GND with a 0.1uF capacitor", 4 RS+ (in) "Power-Side Connection to the External Sense Resistor", 5 RS- (in) "Load-Side Connection to the External Sense Resistor", 6 OUT (out) "Voltage Output. VOUT is proportional to VSENSE. Output impedance is approximately 12k ohm."

## MAX4173HEUT+
designator U?
Voltage-Output, High-Side Current-Sense Amplifier, 100 V / V Gain, -40 to 85 degC, 6-Pin SOT23 (U6+1), Pb-Free; PartNumber: MAX4173HEUT+; Bi-Dir. Curr. Sense: No; Gain: 20 V/V, 50 V/V ,100 V/V; DatasheetVersion: Rev. 5; PackageVersion: Rev. N, 08/2012; PackageReference: U6+1; PackageDescription: 6-Pin Small-Outline Transistor Package (U6+1), Body 2.9 x 1.625 mm, Pitch 0.95 mm; Supplier 1: Mouser; Supplier Part Number 1: N/A; Mounting Technology: Surface Mount; Code_JEDEC: MO178; ComponentLink1Description: Manufacturer URL; ComponentLink1URL: http://www.maximintegrated.com/; ComponentLink2Description: Datasheet; ComponentLink2URL: http://datasheets.maximintegrated.com/en/ds/MAX4173-MAX4173T.pdf; ComponentLink3Description: Package Specification; ComponentLink3URL: http://pdfserv.maximintegrated.com/package_dwgs/21-0058.PDF
footprint MAXM-U6+1_N (SOT23, 6-Leads, Body 2.9x1.625mm, Pitch 0.95mm, IPC Medium Density)
footprint MAXM-U6+1_L (SOT23, 6-Leads, Body 2.9x1.625mm, Pitch 0.95mm, IPC High Density)
footprint MAXM-U6+1_M (SOT23, 6-Leads, Body 2.9x1.625mm, Pitch 0.95mm, IPC Low Density)
pins: 1 GND (power) "Ground", 2 GND (power) "Ground", 3 VCC (power) "Supply Voltage Input. Bypass to GND with a 0.1uF capacitor", 4 RS+ (in) "Power-Side Connection to the External Sense Resistor", 5 RS- (in) "Load-Side Connection to the External Sense Resistor", 6 OUT (out) "Voltage Output. VOUT is proportional to VSENSE. Output impedance is approximately 12k ohm."

## MAX4173HEUT+T
designator U?
Voltage-Output, High-Side Current-Sense Amplifier, 100 V / V Gain, -40 to 85 degC, 6-Pin SOT23 (U6+1), Pb-Free, Tape and Reel; PartNumber: MAX4173HEUT+T; Bi-Dir. Curr. Sense: No; Gain: 20 V/V, 50 V/V ,100 V/V; DatasheetVersion: Rev. 5; PackageVersion: Rev. N, 08/2012; PackageReference: U6+1; PackageDescription: 6-Pin Small-Outline Transistor Package (U6+1), Body 2.9 x 1.625 mm, Pitch 0.95 mm; Supplier 1: Digi-Key; Supplier Part Number 1: MAX4173HEUT+TTR-ND; Supplier 2: Digi-Key; Supplier Part Number 2: MAX4173HEUT+TCT-ND; Supplier 3: Digi-Key; Supplier Part Number 3: MAX4173HEUT+TDKR-ND; Supplier 4: Mouser; Supplier Part Number 4: 700-MAX4173HEUT+T; Mounting Technology: Surface Mount; Code_JEDEC: MO178; ComponentLink1Description: Manufacturer URL; ComponentLink1URL: http://www.maximintegrated.com/; ComponentLink2Description: Datasheet; ComponentLink2URL: http://datasheets.maximintegrated.com/en/ds/MAX4173-MAX4173T.pdf; ComponentLink3Description: Package Specification; ComponentLink3URL: http://pdfserv.maximintegrated.com/package_dwgs/21-0058.PDF
footprint MAXM-U6+1_N (SOT23, 6-Leads, Body 2.9x1.625mm, Pitch 0.95mm, IPC Medium Density)
footprint MAXM-U6+1_L (SOT23, 6-Leads, Body 2.9x1.625mm, Pitch 0.95mm, IPC High Density)
footprint MAXM-U6+1_M (SOT23, 6-Leads, Body 2.9x1.625mm, Pitch 0.95mm, IPC Low Density)
pins: 1 GND (power) "Ground", 2 GND (power) "Ground", 3 VCC (power) "Supply Voltage Input. Bypass to GND with a 0.1uF capacitor", 4 RS+ (in) "Power-Side Connection to the External Sense Resistor", 5 RS- (in) "Load-Side Connection to the External Sense Resistor", 6 OUT (out) "Voltage Output. VOUT is proportional to VSENSE. Output impedance is approximately 12k ohm."

## MAX4173HEUT-T
designator U?
Voltage-Output, High-Side Current-Sense Amplifier, 100 V / V Gain, -40 to 85 degC, 6-Pin SOT23 (U6-1), Tape and Reel; PartNumber: MAX4173HEUT-T; Bi-Dir. Curr. Sense: No; Gain: 20 V/V, 50 V/V ,100 V/V; DatasheetVersion: Rev. 5; PackageVersion: Rev. N, 08/2012; PackageReference: U6-1; PackageDescription: 6-Pin Small-Outline Transistor Package (U6-1), Body 2.9 x 1.625 mm, Pitch 0.95 mm; Supplier 1: Digi-Key; Supplier Part Number 1: MAX4173HEUT-T-ND; Supplier 2: Mouser; Supplier Part Number 2: 700-MAX4173HEUT-T-; Mounting Technology: Surface Mount; Code_JEDEC: MO178; ComponentLink1Description: Manufacturer URL; ComponentLink1URL: http://www.maximintegrated.com/; ComponentLink2Description: Datasheet; ComponentLink2URL: http://datasheets.maximintegrated.com/en/ds/MAX4173-MAX4173T.pdf; ComponentLink3Description: Package Specification; ComponentLink3URL: http://pdfserv.maximintegrated.com/package_dwgs/21-0058.PDF
footprint MAXM-U6-1_N (SOT23, 6-Leads, Body 2.9x1.625mm, Pitch 0.95mm, IPC Medium Density)
footprint MAXM-U6-1_L (SOT23, 6-Leads, Body 2.9x1.625mm, Pitch 0.95mm, IPC High Density)
footprint MAXM-U6-1_M (SOT23, 6-Leads, Body 2.9x1.625mm, Pitch 0.95mm, IPC Low Density)
pins: 1 GND (power) "Ground", 2 GND (power) "Ground", 3 VCC (power) "Supply Voltage Input. Bypass to GND with a 0.1uF capacitor", 4 RS+ (in) "Power-Side Connection to the External Sense Resistor", 5 RS- (in) "Load-Side Connection to the External Sense Resistor", 6 OUT (out) "Voltage Output. VOUT is proportional to VSENSE. Output impedance is approximately 12k ohm."

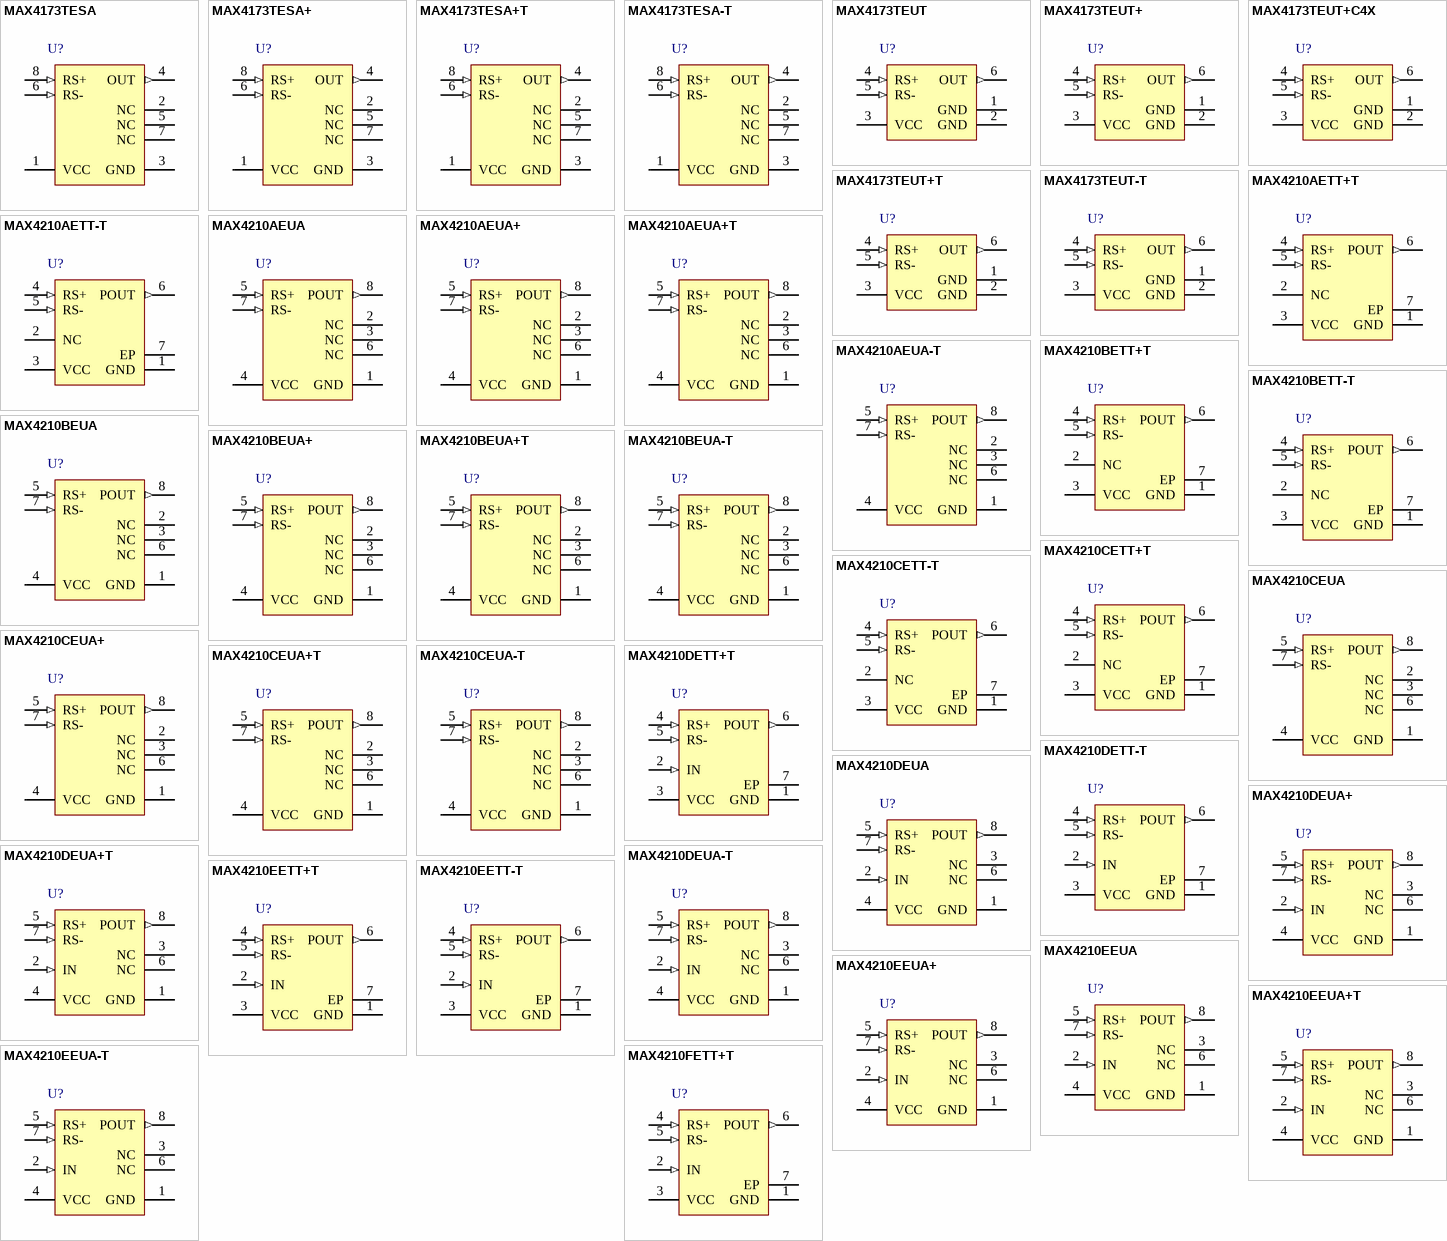
[diagram p3: symbols MAX4173TESA to MAX4210FETT+T]

## MAX4173TESA
designator U?
Voltage-Output, High-Side Current-Sense Amplifier, 20 V / V Gain, -40 to 85 degC, 8-Pin SOIC (S8-2); PartNumber: MAX4173TESA; Bi-Dir. Curr. Sense: No; Gain: 20 V/V, 50 V/V ,100 V/V; DatasheetVersion: Rev. 5; PackageVersion: Rev. D, 10/2012; PackageReference: S8-2; PackageDescription: 8-Pin Small-Outline IC, Narrow (0.15in) (S8-2), Body 4.90 x 3.90 mm, Pitch 1.27 mm; Supplier 1: Digi-Key; Supplier Part Number 1: MAX4173TESA-ND; Supplier 2: Mouser; Supplier Part Number 2: 700-MAX4173TESA-NR; Mounting Technology: Surface Mount; Code_JEDEC: MS012; ComponentLink1Description: Manufacturer URL; ComponentLink1URL: http://www.maximintegrated.com/; ComponentLink2Description: Datasheet; ComponentLink2URL: http://datasheets.maximintegrated.com/en/ds/MAX4173-MAX4173T.pdf; ComponentLink3Description: Package Specification; ComponentLink3URL: http://pdfserv.maximintegrated.com/package_dwgs/21-0041.PDF
footprint MAXM-S8-2_N (SOIC, 8-Leads, Body 4.90x3.90mm, Pitch 1.27mm, IPC Medium Density)
footprint MAXM-S8-2_L (SOIC, 8-Leads, Body 4.90x3.90mm, Pitch 1.27mm, IPC High Density)
footprint MAXM-S8-2_M (SOIC, 8-Leads, Body 4.90x3.90mm, Pitch 1.27mm, IPC Low Density)
pins: 1 VCC (power) "Supply Voltage. Use at least a 0.1uF capacitor to decouple VCC from fast transients", 2 NC "No Connection. Not internally connected.", 3 GND (power) "Ground", 4 OUT (out) "Output Voltage. VOUT is proportional to the magnitude of VSENSE (VRS+ - VRS-).", 5 NC "No Connection. Not internally connected.", 6 RS- (in) "Load connection to the external sense resistor.", 7 NC "No Connection. Not internally connected.", 8 RS+ (in) "Power connection to the external-sense resistor."

## MAX4173TESA+
designator U?
Voltage-Output, High-Side Current-Sense Amplifier, 20 V / V Gain, -40 to 85 degC, 8-Pin SOIC (S8+2), Pb-Free; PartNumber: MAX4173TESA+; Bi-Dir. Curr. Sense: No; Gain: 20 V/V, 50 V/V ,100 V/V; DatasheetVersion: Rev. 5; PackageVersion: Rev. D, 10/2012; PackageReference: S8+2; PackageDescription: 8-Pin Small-Outline IC, Narrow (0.15in) (S8+2), Body 4.90 x 3.90 mm, Pitch 1.27 mm; Supplier 1: Digi-Key; Supplier Part Number 1: MAX4173TESA+-ND; Supplier 2: Mouser; Supplier Part Number 2: 700-MAX4173TESA; Mounting Technology: Surface Mount; Code_JEDEC: MS012; ComponentLink1Description: Manufacturer URL; ComponentLink1URL: http://www.maximintegrated.com/; ComponentLink2Description: Datasheet; ComponentLink2URL: http://datasheets.maximintegrated.com/en/ds/MAX4173-MAX4173T.pdf; ComponentLink3Description: Package Specification; ComponentLink3URL: http://pdfserv.maximintegrated.com/package_dwgs/21-0041.PDF
footprint MAXM-S8+2_N (SOIC, 8-Leads, Body 4.90x3.90mm, Pitch 1.27mm, IPC Medium Density)
footprint MAXM-S8+2_L (SOIC, 8-Leads, Body 4.90x3.90mm, Pitch 1.27mm, IPC High Density)
footprint MAXM-S8+2_M (SOIC, 8-Leads, Body 4.90x3.90mm, Pitch 1.27mm, IPC Low Density)
pins: 1 VCC (power) "Supply Voltage. Use at least a 0.1uF capacitor to decouple VCC from fast transients", 2 NC "No Connection. Not internally connected.", 3 GND (power) "Ground", 4 OUT (out) "Output Voltage. VOUT is proportional to the magnitude of VSENSE (VRS+ - VRS-).", 5 NC "No Connection. Not internally connected.", 6 RS- (in) "Load connection to the external sense resistor.", 7 NC "No Connection. Not internally connected.", 8 RS+ (in) "Power connection to the external-sense resistor."

## MAX4173TESA+T
designator U?
Voltage-Output, High-Side Current-Sense Amplifier, 20 V / V Gain, -40 to 85 degC, 8-Pin SOIC (S8+2), Pb-Free, Tape and Reel; PartNumber: MAX4173TESA+T; Bi-Dir. Curr. Sense: No; Gain: 20 V/V, 50 V/V ,100 V/V; DatasheetVersion: Rev. 5; PackageVersion: Rev. D, 10/2012; PackageReference: S8+2; PackageDescription: 8-Pin Small-Outline IC, Narrow (0.15in) (S8+2), Body 4.90 x 3.90 mm, Pitch 1.27 mm; Supplier 1: Digi-Key; Supplier Part Number 1: MAX4173TESA+T-ND; Supplier 2: Mouser; Supplier Part Number 2: 700-MAX4173TESA+T; Mounting Technology: Surface Mount; Code_JEDEC: MS012; ComponentLink1Description: Manufacturer URL; ComponentLink1URL: http://www.maximintegrated.com/; ComponentLink2Description: Datasheet; ComponentLink2URL: http://datasheets.maximintegrated.com/en/ds/MAX4173-MAX4173T.pdf; ComponentLink3Description: Package Specification; ComponentLink3URL: http://pdfserv.maximintegrated.com/package_dwgs/21-0041.PDF
footprint MAXM-S8+2_N (SOIC, 8-Leads, Body 4.90x3.90mm, Pitch 1.27mm, IPC Medium Density)
footprint MAXM-S8+2_L (SOIC, 8-Leads, Body 4.90x3.90mm, Pitch 1.27mm, IPC High Density)
footprint MAXM-S8+2_M (SOIC, 8-Leads, Body 4.90x3.90mm, Pitch 1.27mm, IPC Low Density)
pins: 1 VCC (power) "Supply Voltage. Use at least a 0.1uF capacitor to decouple VCC from fast transients", 2 NC "No Connection. Not internally connected.", 3 GND (power) "Ground", 4 OUT (out) "Output Voltage. VOUT is proportional to the magnitude of VSENSE (VRS+ - VRS-).", 5 NC "No Connection. Not internally connected.", 6 RS- (in) "Load connection to the external sense resistor.", 7 NC "No Connection. Not internally connected.", 8 RS+ (in) "Power connection to the external-sense resistor."

## MAX4173TESA-T
designator U?
Voltage-Output, High-Side Current-Sense Amplifier, 20 V / V Gain, -40 to 85 degC, 8-Pin SOIC (S8-2), Tape and Reel; PartNumber: MAX4173TESA-T; Bi-Dir. Curr. Sense: No; Gain: 20 V/V, 50 V/V ,100 V/V; DatasheetVersion: Rev. 5; PackageVersion: Rev. D, 10/2012; PackageReference: S8-2; PackageDescription: 8-Pin Small-Outline IC, Narrow (0.15in) (S8-2), Body 4.90 x 3.90 mm, Pitch 1.27 mm; Supplier 1: Digi-Key; Supplier Part Number 1: MAX4173TESA-T-ND; Supplier 2: Mouser; Supplier Part Number 2: 700-MAX4173TESA-T-; Mounting Technology: Surface Mount; Code_JEDEC: MS012; ComponentLink1Description: Manufacturer URL; ComponentLink1URL: http://www.maximintegrated.com/; ComponentLink2Description: Datasheet; ComponentLink2URL: http://datasheets.maximintegrated.com/en/ds/MAX4173-MAX4173T.pdf; ComponentLink3Description: Package Specification; ComponentLink3URL: http://pdfserv.maximintegrated.com/package_dwgs/21-0041.PDF
footprint MAXM-S8-2_N (SOIC, 8-Leads, Body 4.90x3.90mm, Pitch 1.27mm, IPC Medium Density)
footprint MAXM-S8-2_L (SOIC, 8-Leads, Body 4.90x3.90mm, Pitch 1.27mm, IPC High Density)
footprint MAXM-S8-2_M (SOIC, 8-Leads, Body 4.90x3.90mm, Pitch 1.27mm, IPC Low Density)
pins: 1 VCC (power) "Supply Voltage. Use at least a 0.1uF capacitor to decouple VCC from fast transients", 2 NC "No Connection. Not internally connected.", 3 GND (power) "Ground", 4 OUT (out) "Output Voltage. VOUT is proportional to the magnitude of VSENSE (VRS+ - VRS-).", 5 NC "No Connection. Not internally connected.", 6 RS- (in) "Load connection to the external sense resistor.", 7 NC "No Connection. Not internally connected.", 8 RS+ (in) "Power connection to the external-sense resistor."

## MAX4173TEUT
designator U?
Voltage-Output, High-Side Current-Sense Amplifier, 20 V / V Gain, -40 to 85 degC, 6-Pin SOT23 (U6-1); PartNumber: MAX4173TEUT; Bi-Dir. Curr. Sense: No; Gain: 20 V/V, 50 V/V ,100 V/V; DatasheetVersion: Rev. 5; PackageVersion: Rev. N, 08/2012; PackageReference: U6-1; PackageDescription: 6-Pin Small-Outline Transistor Package (U6-1), Body 2.9 x 1.625 mm, Pitch 0.95 mm; Supplier 1: Mouser; Supplier Part Number 1: N/A; Mounting Technology: Surface Mount; Code_JEDEC: MO178; ComponentLink1Description: Manufacturer URL; ComponentLink1URL: http://www.maximintegrated.com/; ComponentLink2Description: Datasheet; ComponentLink2URL: http://datasheets.maximintegrated.com/en/ds/MAX4173-MAX4173T.pdf; ComponentLink3Description: Package Specification; ComponentLink3URL: http://pdfserv.maximintegrated.com/package_dwgs/21-0058.PDF
footprint MAXM-U6-1_N (SOT23, 6-Leads, Body 2.9x1.625mm, Pitch 0.95mm, IPC Medium Density)
footprint MAXM-U6-1_L (SOT23, 6-Leads, Body 2.9x1.625mm, Pitch 0.95mm, IPC High Density)
footprint MAXM-U6-1_M (SOT23, 6-Leads, Body 2.9x1.625mm, Pitch 0.95mm, IPC Low Density)
pins: 1 GND (power) "Ground", 2 GND (power) "Ground", 3 VCC (power) "Supply Voltage Input. Bypass to GND with a 0.1uF capacitor", 4 RS+ (in) "Power-Side Connection to the External Sense Resistor", 5 RS- (in) "Load-Side Connection to the External Sense Resistor", 6 OUT (out) "Voltage Output. VOUT is proportional to VSENSE. Output impedance is approximately 12k ohm."

## MAX4173TEUT+
designator U?
Voltage-Output, High-Side Current-Sense Amplifier, 20 V / V Gain, -40 to 85 degC, 6-Pin SOT23 (U6+1), Pb-Free; PartNumber: MAX4173TEUT+; Bi-Dir. Curr. Sense: No; Gain: 20 V/V, 50 V/V ,100 V/V; DatasheetVersion: Rev. 5; PackageVersion: Rev. N, 08/2012; PackageReference: U6+1; PackageDescription: 6-Pin Small-Outline Transistor Package (U6+1), Body 2.9 x 1.625 mm, Pitch 0.95 mm; Supplier 1: Mouser; Supplier Part Number 1: N/A; Mounting Technology: Surface Mount; Code_JEDEC: MO178; ComponentLink1Description: Manufacturer URL; ComponentLink1URL: http://www.maximintegrated.com/; ComponentLink2Description: Datasheet; ComponentLink2URL: http://datasheets.maximintegrated.com/en/ds/MAX4173-MAX4173T.pdf; ComponentLink3Description: Package Specification; ComponentLink3URL: http://pdfserv.maximintegrated.com/package_dwgs/21-0058.PDF
footprint MAXM-U6+1_N (SOT23, 6-Leads, Body 2.9x1.625mm, Pitch 0.95mm, IPC Medium Density)
footprint MAXM-U6+1_L (SOT23, 6-Leads, Body 2.9x1.625mm, Pitch 0.95mm, IPC High Density)
footprint MAXM-U6+1_M (SOT23, 6-Leads, Body 2.9x1.625mm, Pitch 0.95mm, IPC Low Density)
pins: 1 GND (power) "Ground", 2 GND (power) "Ground", 3 VCC (power) "Supply Voltage Input. Bypass to GND with a 0.1uF capacitor", 4 RS+ (in) "Power-Side Connection to the External Sense Resistor", 5 RS- (in) "Load-Side Connection to the External Sense Resistor", 6 OUT (out) "Voltage Output. VOUT is proportional to VSENSE. Output impedance is approximately 12k ohm."

## MAX4173TEUT+C4X
designator U?
Voltage-Output, High-Side Current-Sense Amplifier, 20 V / V Gain, -40 to 85 degC, 6-Pin SOT23 (U6+1), Pb-Free; PartNumber: MAX4173TEUT+C4X; Bi-Dir. Curr. Sense: No; Gain: 20 V/V, 50 V/V ,100 V/V; DatasheetVersion: Rev. 5; PackageVersion: Rev. N, 08/2012; PackageReference: U6+1; PackageDescription: 6-Pin Small-Outline Transistor Package (U6+1), Body 2.9 x 1.625 mm, Pitch 0.95 mm; Supplier 1: Mouser; Supplier Part Number 1: N/A; Mounting Technology: Surface Mount; Code_JEDEC: MO178; ComponentLink1Description: Manufacturer URL; ComponentLink1URL: http://www.maximintegrated.com/; ComponentLink2Description: Datasheet; ComponentLink2URL: http://datasheets.maximintegrated.com/en/ds/MAX4173-MAX4173T.pdf; ComponentLink3Description: Package Specification; ComponentLink3URL: http://pdfserv.maximintegrated.com/package_dwgs/21-0058.PDF
footprint MAXM-U6+1_N (SOT23, 6-Leads, Body 2.9x1.625mm, Pitch 0.95mm, IPC Medium Density)
footprint MAXM-U6+1_L (SOT23, 6-Leads, Body 2.9x1.625mm, Pitch 0.95mm, IPC High Density)
footprint MAXM-U6+1_M (SOT23, 6-Leads, Body 2.9x1.625mm, Pitch 0.95mm, IPC Low Density)
pins: 1 GND (power) "Ground", 2 GND (power) "Ground", 3 VCC (power) "Supply Voltage Input. Bypass to GND with a 0.1uF capacitor", 4 RS+ (in) "Power-Side Connection to the External Sense Resistor", 5 RS- (in) "Load-Side Connection to the External Sense Resistor", 6 OUT (out) "Voltage Output. VOUT is proportional to VSENSE. Output impedance is approximately 12k ohm."

## MAX4173TEUT+T
designator U?
Voltage-Output, High-Side Current-Sense Amplifier, 20 V / V Gain, -40 to 85 degC, 6-Pin SOT23 (U6+1), Pb-Free, Tape and Reel; PartNumber: MAX4173TEUT+T; Bi-Dir. Curr. Sense: No; Gain: 20 V/V, 50 V/V ,100 V/V; DatasheetVersion: Rev. 5; PackageVersion: Rev. N, 08/2012; PackageReference: U6+1; PackageDescription: 6-Pin Small-Outline Transistor Package (U6+1), Body 2.9 x 1.625 mm, Pitch 0.95 mm; Supplier 1: Digi-Key; Supplier Part Number 1: MAX4173TEUT+TTR-ND; Supplier 2: Digi-Key; Supplier Part Number 2: MAX4173TEUT+TCT-ND; Supplier 3: Digi-Key; Supplier Part Number 3: MAX4173TEUT+TDKR-ND; Supplier 4: Mouser; Supplier Part Number 4: 700-MAX4173TEUT+T; Mounting Technology: Surface Mount; Code_JEDEC: MO178; ComponentLink1Description: Manufacturer URL; ComponentLink1URL: http://www.maximintegrated.com/; ComponentLink2Description: Datasheet; ComponentLink2URL: http://datasheets.maximintegrated.com/en/ds/MAX4173-MAX4173T.pdf; ComponentLink3Description: Package Specification; ComponentLink3URL: http://pdfserv.maximintegrated.com/package_dwgs/21-0058.PDF
footprint MAXM-U6+1_N (SOT23, 6-Leads, Body 2.9x1.625mm, Pitch 0.95mm, IPC Medium Density)
footprint MAXM-U6+1_L (SOT23, 6-Leads, Body 2.9x1.625mm, Pitch 0.95mm, IPC High Density)
footprint MAXM-U6+1_M (SOT23, 6-Leads, Body 2.9x1.625mm, Pitch 0.95mm, IPC Low Density)
pins: 1 GND (power) "Ground", 2 GND (power) "Ground", 3 VCC (power) "Supply Voltage Input. Bypass to GND with a 0.1uF capacitor", 4 RS+ (in) "Power-Side Connection to the External Sense Resistor", 5 RS- (in) "Load-Side Connection to the External Sense Resistor", 6 OUT (out) "Voltage Output. VOUT is proportional to VSENSE. Output impedance is approximately 12k ohm."

## MAX4173TEUT-T
designator U?
Voltage-Output, High-Side Current-Sense Amplifier, 20 V / V Gain, -40 to 85 degC, 6-Pin SOT23 (U6-1), Tape and Reel; PartNumber: MAX4173TEUT-T; Bi-Dir. Curr. Sense: No; Gain: 20 V/V, 50 V/V ,100 V/V; DatasheetVersion: Rev. 5; PackageVersion: Rev. N, 08/2012; PackageReference: U6-1; PackageDescription: 6-Pin Small-Outline Transistor Package (U6-1), Body 2.9 x 1.625 mm, Pitch 0.95 mm; Supplier 1: Digi-Key; Supplier Part Number 1: MAX4173TEUT-T-ND; Supplier 2: Mouser; Supplier Part Number 2: 700-MAX4173TEUT-T-; Mounting Technology: Surface Mount; Code_JEDEC: MO178; ComponentLink1Description: Manufacturer URL; ComponentLink1URL: http://www.maximintegrated.com/; ComponentLink2Description: Datasheet; ComponentLink2URL: http://datasheets.maximintegrated.com/en/ds/MAX4173-MAX4173T.pdf; ComponentLink3Description: Package Specification; ComponentLink3URL: http://pdfserv.maximintegrated.com/package_dwgs/21-0058.PDF
footprint MAXM-U6-1_N (SOT23, 6-Leads, Body 2.9x1.625mm, Pitch 0.95mm, IPC Medium Density)
footprint MAXM-U6-1_L (SOT23, 6-Leads, Body 2.9x1.625mm, Pitch 0.95mm, IPC High Density)
footprint MAXM-U6-1_M (SOT23, 6-Leads, Body 2.9x1.625mm, Pitch 0.95mm, IPC Low Density)
pins: 1 GND (power) "Ground", 2 GND (power) "Ground", 3 VCC (power) "Supply Voltage Input. Bypass to GND with a 0.1uF capacitor", 4 RS+ (in) "Power-Side Connection to the External Sense Resistor", 5 RS- (in) "Load-Side Connection to the External Sense Resistor", 6 OUT (out) "Voltage Output. VOUT is proportional to VSENSE. Output impedance is approximately 12k ohm."